# EAGLE library part MCP2221A (library ICs)
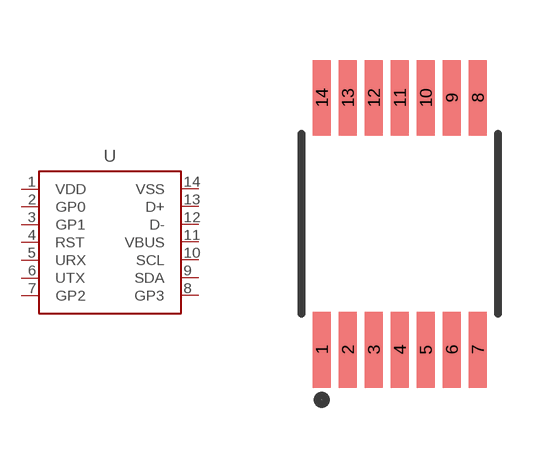
[diagram p4: symbol with the pads of TSSOP14; footprint TSSOP14]

Designator prefix -

## MCP2221A  [TSSOP14]
1  VDD  pwr
2  GP0
3  GP1
4  RST  in
5  URX  in
6  UTX  out
7  GP2
8  GP3
9  SDA
10  SCL
11  VBUS
12  D-
13  D+
14  VSS  pwr

## Footprint TSSOP14 (pad centres in mm)
14-Lead Plastic Thin Shrink Small Outline (ST) - 4.4 mm Body TSSOP
smd 0.45 x 1.9: 1 -1.95,-3.15; 2 -1.3,-3.15; 3 -0.65,-3.15; 4 0,-3.15; 5 0.65,-3.15; 6 1.3,-3.15; 7 1.95,-3.15; 8 1.95,3.15; 9 1.3,3.15; 10 0.65,3.15; 11 0,3.15; 12 -0.65,3.15; 13 -1.3,3.15; 14 -1.95,3.15